# Altium footprint library NEW_PCB_2021-12-20.PcbLib: 1 footprints
Each footprint in its own frame and in the unit in brackets; x right, y up, seen from the top. Pads: shape width x height; smd on the part's side, far side on the other; paste and mask are expansions set on the pad; w line width, h text height; cw(c..) or ccw(c..) is an arc to the next point about the centre after c.
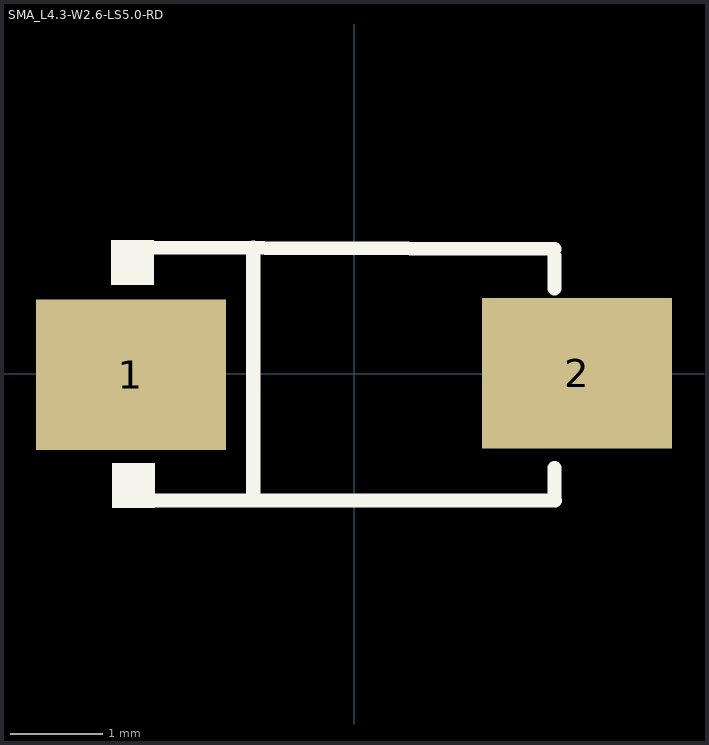
[diagram p0: the footprint, top view; thin cyan lines are the x and y axes]

## SMA_L4.3-W2.6-LS5.0-RD [mm]
pads (2):
  rect 2.046x1.62 smd: 1(-2.404,-0.009) 2(2.404,0.009)
Top Overlay:
  region: -2.145,-1.44 -2.145,-0.962 -2.602,-0.962 -2.602,-1.44
  region: -2.158,1.44 -2.158,0.962 -2.615,0.962 -2.615,1.44
  lines w0.152: -2.526,1.364 2.159,1.346 ; -2.504,-1.364 2.165,-1.364 ; -1.085,-1.364 -1.085,1.364 ; 2.159,-1.364 2.159,-1.013 ; 2.159,0.919 2.159,1.27
Mechanical 15:
  region: 2.142,-0.644 2.142,0.644 1.949,0.644 1.949,-0.644
  region: 2.432,-0.097 2.432,0.097 1.659,0.097 1.659,-0.097
  region: -2.432,-0.097 -2.432,0.097 -1.659,0.097 -1.659,-0.097